# Altium integrated library GRM21BR71C475KE51L.IntLib: 1 symbol
Pins are listed as number, name and electrical type; pins without a type are passive.

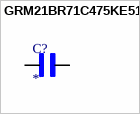
[diagram p0: symbol GRM21BR71C475KE51L]

## GRM21BR71C475KE51L
designator C?
4.7 ÂµF Â±10% 16V Ceramic Capacitor X7R 0805 (2012 Metric); MF: Murata Electronics; MP: GRM21BR71C475KE51L; SnapEDA_Link: https://www.snapeda.com/parts/GRM21BR71C475KE51L/Murata/view-part/?ref=snap; Package: 2012 Murata; Value: *; Check_prices: https://www.snapeda.com/parts/GRM21BR71C475KE51L/Murata/view-part/?ref=eda
footprint CAPC2012X140N
pins: 1, 2